# Altium footprint library Switch.PcbLib: 8 footprints
Each footprint in its own frame and in the unit in brackets; x right, y up, seen from the top. Pads: shape width x height; smd on the part's side, far side on the other; paste and mask are expansions set on the pad; w line width, h text height; cw(c..) or ccw(c..) is an arc to the next point about the centre after c.
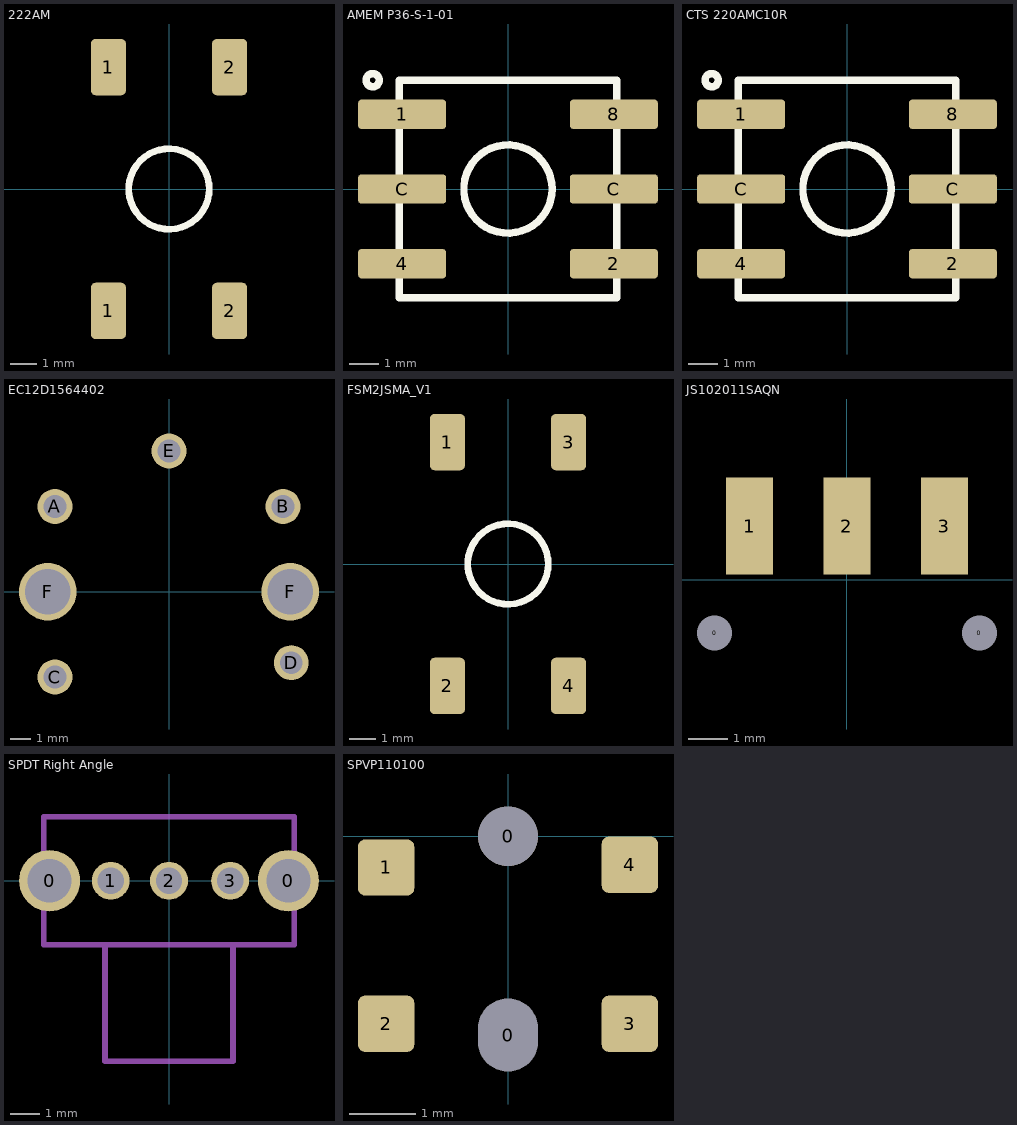
[diagram p0: the footprints below, top view; thin cyan lines are the x and y axes]

## 222AM [mm] "tactile Button"
pads (4):
  rrect25% 1.3x2.1 smd: 1(-2.26,-4.55) 1(-2.26,4.55) 2(2.26,-4.55) 2(2.26,4.55)
Top Overlay:
  circle w0.254: c0,0 r1.503
3D body: height 4.38, standoff -0.01, extent -3,-5 3,5

## AMEM P36-S-1-01 [mm]
pads (6):
  rrect25% 3x1 smd: 1(-3.6,2.54) 2(3.6,-2.54) 4(-3.6,-2.54) 8(3.6,2.54) C(-3.6,0) C(3.6,0)
Top Overlay:
  circle w0.254: c0,0 r1.5
  circle w0.254: c-4.6,3.7 r0.224
  lines w0.254: -3.7,-3.7 -3.7,3.7 3.7,3.7 3.7,-3.7 -3.7,-3.7
3D body: height 3.85, standoff 0, extent -3.7,-3.7 3.7,3.7

## CTS 220AMC10R [mm] "CTS 220AMC10R"
pads (6):
  rrect25% 3x1 smd: 1(-3.6,2.54) 2(3.6,-2.54) 4(-3.6,-2.54) 8(3.6,2.54) C(-3.6,0) C(3.6,0)
Top Overlay:
  circle w0.254: c-4.6,3.7 r0.224
  circle w0.254: c0,0 r1.5
  lines w0.254: -3.7,-3.7 3.7,-3.7 3.7,3.7 -3.7,3.7 -3.7,-3.7
3D body: height 6.87, standoff -0.01, extent -4.75,-3.6 4.75,3.6

## EC12D1564402 [mm] "Encoder with button"
pads (7):
  round 1.7 hole 1.1: A(-5.55,4.15) B(5.55,4.15) C(-5.55,-4.15) D(5.95,-3.45) E(0,6.85)
  round 2.8 hole 2.2: F(-5.9,0) F(5.9,0)
3D body: height 17.47, standoff -3.5, extent -7.074,-5.957 7.075,7

## FSM2JSMA_V1 [mm] "tactile Button"
pads (4):
  rrect25% 1.3x2.1 smd: 1(-2.26,4.55) 2(-2.26,-4.55) 3(2.26,4.55) 4(2.26,-4.55)
Top Overlay:
  circle w0.254: c0,0 r1.503
3D body: height 4.38, standoff -0.01, extent -3,-5 3,5

## JS102011SAQN [mm] "Side switch SMD"
pads (5):
  rect 0.2x0.2 hole 0.9 unplated: 0(-3.4,-1.375) 0(3.4,-1.375)
  rect 1.2x2.5 smd: 1(-2.5,1.375) 2(0,1.375) 3(2.5,1.375)
3D body: height 3.22, standoff -1.08, extent -4.5,-5.125 4.5,2.375

## SPDT Right Angle [mm] "OS102011MA1QN1"
pads (5):
  round 2.1 hole 1.5 unplated: 0(-4.1,0) 0(4.1,0)
  round 1.3 hole 0.9 unplated: 1(-2,0) 2(0,0) 3(2.1,0)
Mechanical 1:
  lines w0.2: -2.2,-2.2 -2.2,-6.2 2.2,-6.2 2.2,-2.2 ; -4.3,-2.2 -4.3,2.2 4.3,2.2 4.3,-2.2 -4.3,-2.2

## SPVP110100 [mm] "SPVP110100"
height 1.08
pads (6):
  round 0.9 hole 0.9 slot 1.1 at 90 deg unplated: 0(0,-3)
  round 0.9 hole 0.9 unplated: 0(0,0)
  rrect25% 0.85x0.85 smd: 1(-1.84,-0.47) 2(-1.84,-2.83) 3(1.84,-2.83) 4(1.84,-0.43)
3D body: height 1.18, standoff -0.5, extent -2.03,-4.275 2.03,3.775